# EAGLE library part LIS3DH (library ICs)
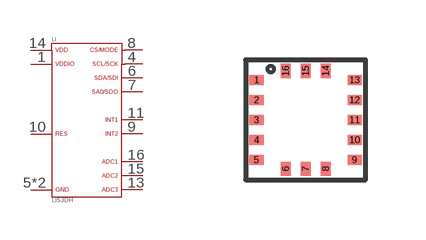
[diagram p4: symbol with the pads of LGA-16; footprint LGA-16]

Designator prefix U

## LIS3DH  [LGA-16]
1  VDDIO  pas
4  SCL/SCK  pas
5  GND  pas
6  SDA/SDI  pas
7  SA0/SDO  pas
8  CS/MODE  pas
9  INT2  pas
10  RES  pas
11  INT1  pas
12  GND  pas
13  ADC3  pas
14  VDD  pas
15  ADC2  pas
16  ADC1  pas

## Footprint LGA-16 (pad centres in mm)
smd 0.35 x 0.25: 1 -1.225,1; 2 -1.225,0.5; 3 -1.225,0; 4 -1.225,-0.5; 5 -1.225,-1; 9 1.225,-1; 10 1.225,-0.5; 11 1.225,0; 12 1.225,0.5; 13 1.225,1
smd 0.25 x 0.35: 6 -0.5,-1.225; 7 0,-1.225; 8 0.5,-1.225; 14 0.5,1.225; 15 0,1.225; 16 -0.5,1.225